# EAGLE library part EXPANSION_BORAD (library IoTMakers)
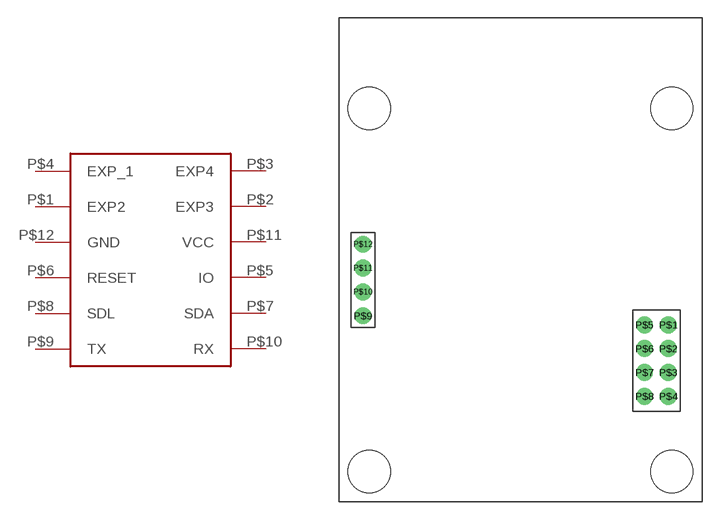
[diagram p19: symbol with the pads of EXPANSION_BARD_1; footprint EXPANSION_BARD_1]

Designator prefix -

## EXPANSION_BORAD  [EXPANSION_BARD_1]
P$1  EXP2
P$2  EXP3
P$3  EXP4
P$4  EXP_1
P$5  IO
P$6  RESET
P$7  SDA
P$8  SDL
P$9  TX
P$10  RX
P$11  VCC
P$12  GND

## Footprint EXPANSION_BARD_1 (pad centres in mm)
drill 0.75 pad 1.422: P$1 27.65,14.86; P$2 27.65,12.86; P$3 27.65,10.86; P$4 27.65,8.86; P$5 25.65,14.86; P$6 25.65,12.86; P$7 25.65,10.86; P$8 25.65,8.86; P$9 2,15.62; P$10 2,17.62; P$11 2,19.62; P$12 2,21.62
hole 3.556 at 27.94,33.02
hole 3.556 at 2.54,33.02
hole 3.556 at 27.94,2.54
hole 3.556 at 2.54,2.54